# Altium integrated library Integrated_Library1.IntLib: 3 symbols
Pins are listed as number, name and electrical type; pins without a type are passive.

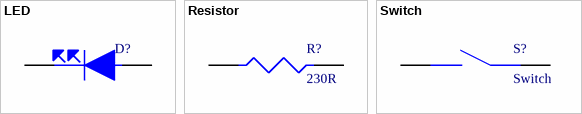
[diagram p0: symbols LED to Switch]

## LED
designator D?
LED GREEN CLEAR 3528 SMD; Part Number: 732-4997-1-ND; ComponentLink1Description: DigiKey; ComponentLink1URL: https://www.digikey.com/en/products/detail/w%C3%BCrth-elektronik/150141GS73100/4489957
footprint LED
pins: 1, 2

## Resistor
designator R?, comment 230R
RES SMD 230OHM 0.01% 1/4W J LEAD /; Part Number: Y1121230R000T9L-ND; ComponentLink1Description: DigiKey; ComponentLink1URL: https://www.digikey.com/en/products/detail/vpg-foil-resistors/Y1121230R000T9L/4225988
footprint Resistor
pins: 1, 2

## Switch
designator S?
SWITCH TOGGLE SPDT 0.4VA 28V; Part Key: 360-1774-ND; ComponentLink1Description: DigiKey; ComponentLink1URL: https://www.digikey.com/en/products/detail/nkk-switches/G3T12AP/1006855
footprint Switch
pins: 1, 2